# EAGLE library part V2164 (library ic-coolaudio)
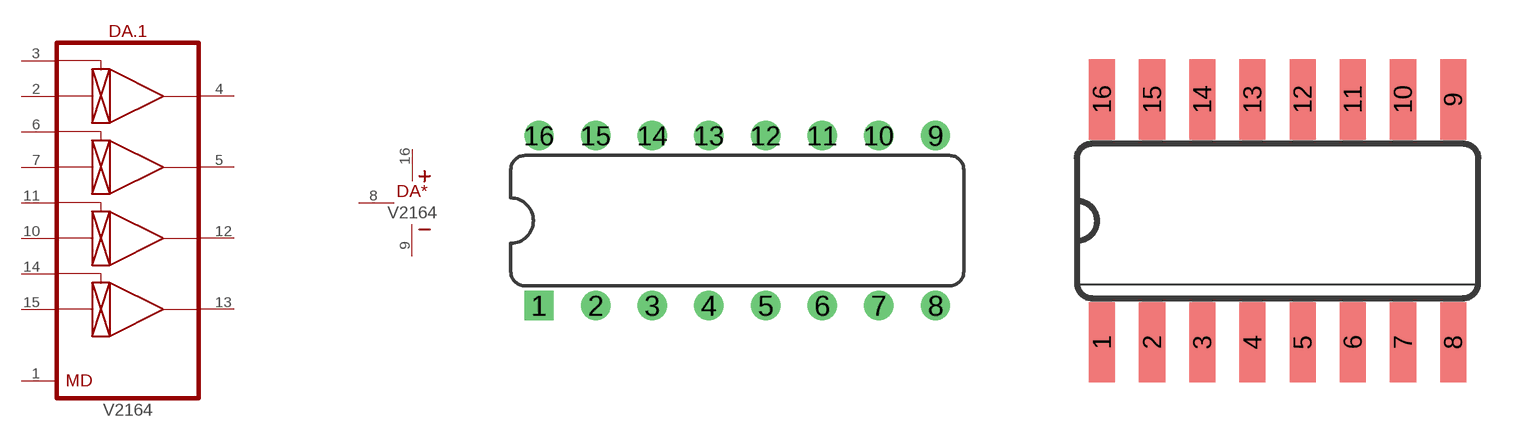
[diagram p1: symbol with the pads of DIP-16; footprints DIP-16, SO-16]

Designator prefix DA; gates .1=V2164 *=SUPPLY+GND

## V2164D  [DIP-16]
1  .1:MD  out
2  .1:IN1  in
3  .1:CV1  in
4  .1:OUT1  out
5  .1:OUT2  out
6  .1:CV2  in
7  .1:IN2  in
8  *:GND  pwr
9  *:V-  pwr
10  .1:IN3  in
11  .1:CV3  in
12  .1:OUT3  out
13  .1:OUT4  out
14  .1:CV4  in
15  .1:IN4  in
16  *:V+  pwr

## V2164M  [SO-16]
Pads as for DIP-16

## Footprint DIP-16 (pad centres in mm)
Dual In Line Package
drill 0.813 square: 1 -8.89,-3.81
drill 0.813: 2 -6.35,-3.81; 3 -3.81,-3.81; 4 -1.27,-3.81; 5 1.27,-3.81; 6 3.81,-3.81; 7 6.35,-3.81; 8 8.89,-3.81; 9 8.89,3.81; 10 6.35,3.81; 11 3.81,3.81; 12 1.27,3.81; 13 -1.27,3.81; 14 -3.81,3.81; 15 -6.35,3.81; 16 -8.89,3.81

## Footprint SO-16 (pad centres in mm)
Small Outline package 150 mil
smd 0.66 x 2.032: 1 -4.445,-3.073; 2 -3.175,-3.073; 3 -1.905,-3.073; 4 -0.635,-3.073; 5 0.635,-3.073; 6 1.905,-3.073; 7 3.175,-3.073; 8 4.445,-3.073; 9 4.445,3.073; 10 3.175,3.073; 11 1.905,3.073; 12 0.635,3.073; 13 -0.635,3.073; 14 -1.905,3.073; 15 -3.175,3.073; 16 -4.445,3.073